# Altium integrated library TI Data Converters Digital to Analog Converter.IntLib: 1533 symbols (part 74 of 99)
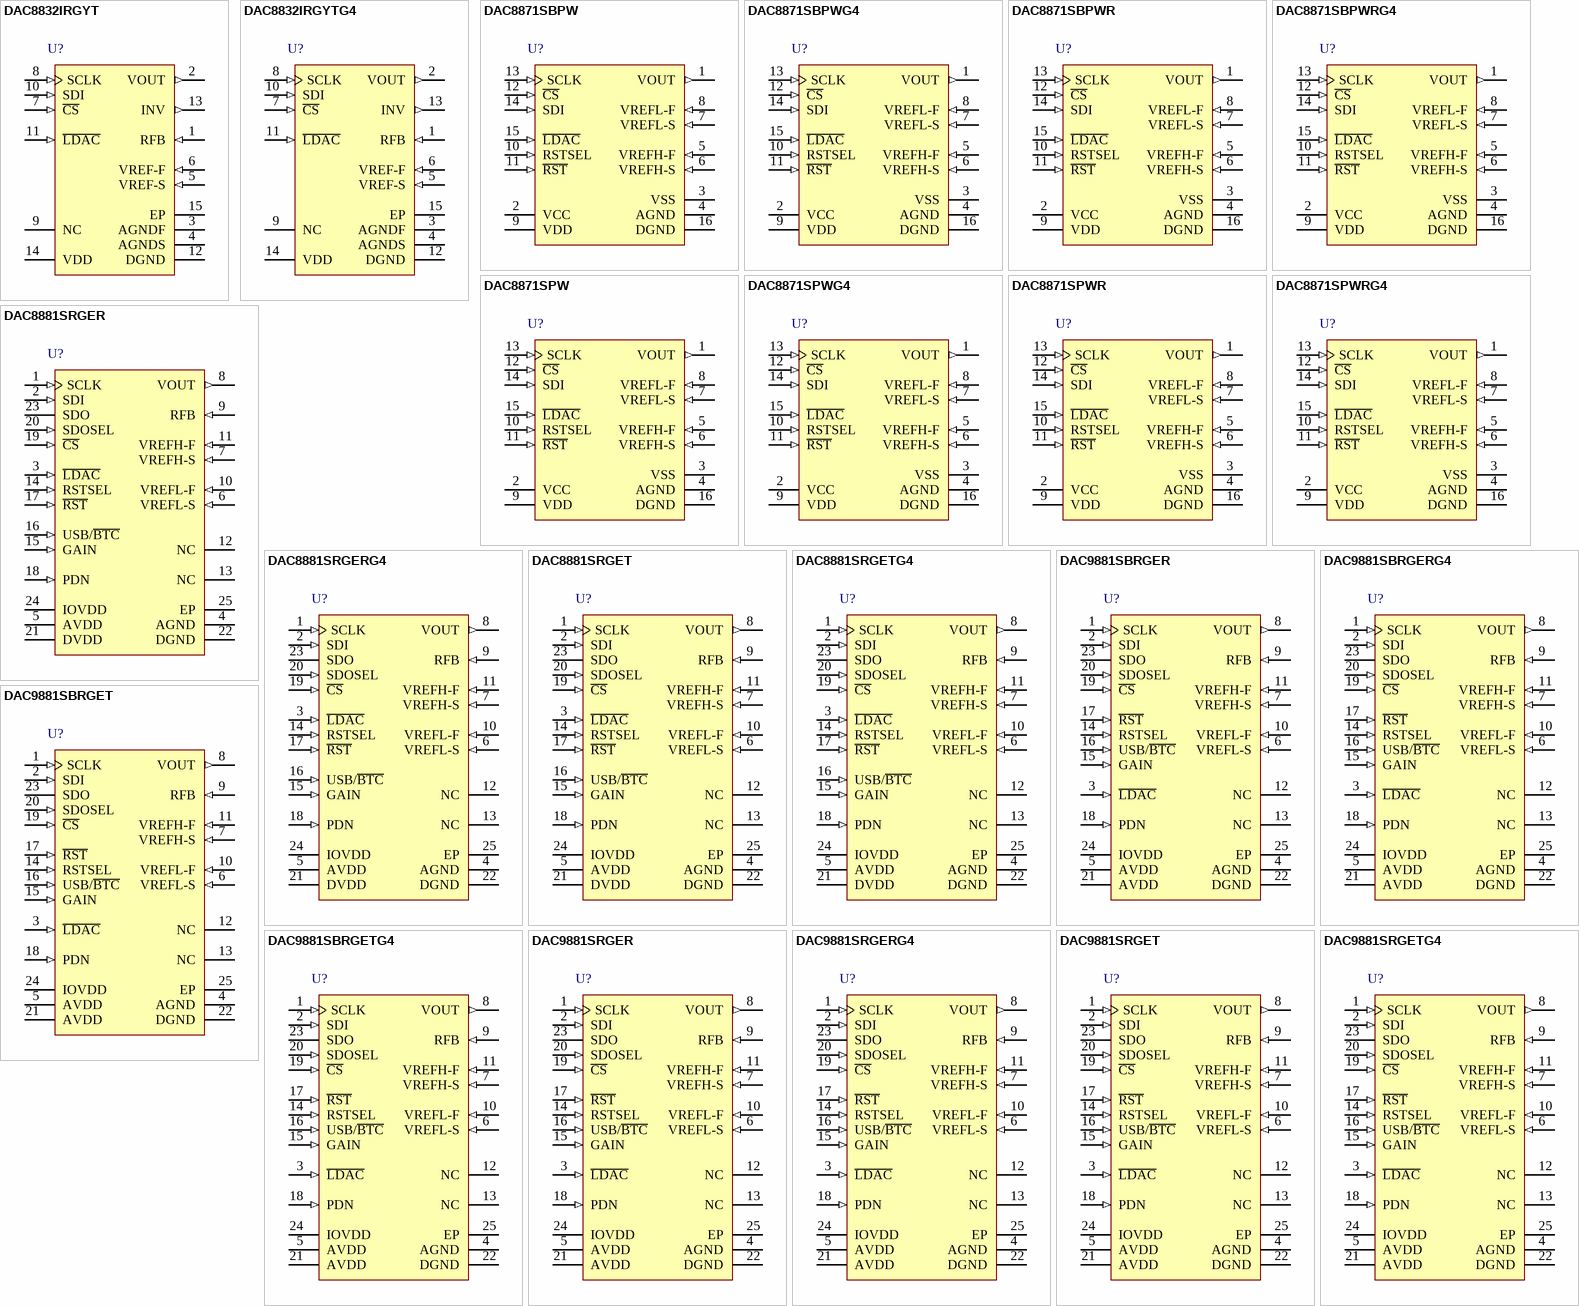
[diagram p146: symbols DAC8832IRGYT to DAC9881SRGETG4]

## DAC8881SRGER
designator U?
Single Channel 16-Bit, Low Noise, Voltage Output DAC, -40 to 105 degC, 24-pin QFN (RGE24), Green (RoHS & no Sb/Br); Manufacturer: Texas Instruments; PartNumber: DAC8881SRGER; DAC Channels: 1; Interface: Serial SPI; Power Consumption(Typ)(mW): 6; Resolution(Bits): 16; Settling Time(us): 5; SubFamily: Precision DAC (=<10MSPS); DatasheetVersion: SBAS422A; PackageVersion: 4204104/G, 07/2011; PackageReference: RGE24-2450X2450TP; PackageDescription: 24-Pin Plastic Flat Pack, Body 4 x 4 mm, Pitch 0.5 mm; Supplier 1: Digi-Key; Supplier Part Number 1: DAC8881SRGER-ND; Supplier 2: Mouser; Supplier Part Number 2: 595-DAC8881SRGER; DNL(Max)(+/-LSB): 1; Eco-Plan: Green (RoHS & no Sb/Br); INL(Max)(+/-LSB): 1; Mounting Technology: Surface Mount; Code_JEDEC: MO-220; ComponentLink1Description: Manufacturer URL; ComponentLink1URL: http://www.ti.com/; ComponentLink2Description: Datasheet; ComponentLink2URL: http://www.ti.com/general/docs/lit/getliterature.tsp?genericPartNumber=DAC8881&fileType=pdf; ComponentLink3Description: Package Specification; ComponentLink3URL: http://www.ti.com/litv/pdf/mpqf124f
footprint TI-RGE24-2450X2450TP_V (QFN, 24-Leads, Body 4x4mm, Pitch 0.5mm, Thermal Pad 2.45x2.45mm)
pins: 1 SCLK (in) "SPI bus serial clock input", 2 SDI (in) "SPI bus serial data input", 3 ~{LDAC} (in) "Load DAC latch control input (active low). When L\D\A\C\ is low, the DAC latch is transparent, and the contents of the input register are transferred to the DAC latch. The DAC output changes to the corresponding level (See Datasheet)", 4 AGND (power) "Analog ground", 5 AVDD (power) "Analog power supply", 6 VREFL-S (in) "Reference low input sense", 7 VREFH-S (in) "Reference high input sense", 8 VOUT (out) "Output of output buffer", 9 RFB (in) "Feedback resistor connected to the inverting input of the output buffer.", 10 VREFL-F (in) "Reference low input force", 11 VREFH-F (in) "Reference high input force", 12 NC "Do not connect.", 13 NC "Do not connect.", 14 RSTSEL (in) "Selects the value of the output from the VOUT pin after power-on or hardware reset. If RSTSEL = IOVDD, then register data = 20000h. If RSTSEL = DGND, then register data = 00000h.", 15 GAIN (in) "Buffer gain setting. Gain = 1 when the pin is connected to DGND; Gain = 2 when the pin is connected to IOVDD.", 16 USB/~{BTC} (in) "Input data format selection. Input data are straight binary format when the pin is connected to IOVDD, and in twos complement format when the pin is connected to DGND.", 17 ~{RST} (in) "Reset input (active low). Logic low on this pin causes the device to perform a reset.", 18 PDN (in) "Power-down input (active high). Logic high on this pin forces the device into power-down status. In power-down, the VOUT pin connects to AGND through a 10kohm resistor.", 19 ~{CS} (in) "SPI bus chip select input (active low). Data bits are not clocked into the serial shift register unless C\S\ is low. When C\S\ is high, SDO is in a high-impedance state. It is recommended to connect this pin to IOVDD through (See Datasheet)", 20 SDOSEL (in) "SPI serial data output selection. When SDOSEL is tied to IOVDD, the contents of the existing input register are shifted out from the SDO pin; this is Stand-Alone mode. When SDOSEL is tied to DGND, the contents in the SPI (See Datasheet)", 21 DVDD (power) "Analog power supply. Must be connected to pin 5.", 22 DGND (power) "Digital ground", 23 SDO (hiz) "SPI bus serial data output. Refer to the Timing Diagrams for further detail.", 24 IOVDD (power) "Interface power. Connect to +1.8V for 1.8V logic, +3V for 3V logic, and to +5V for 5V logic.", 25 EP "The thermal pad is internally connected to the substrate. This pad can be connected to the analog ground or left floating. Keep the thermal pad separate from the digital ground, if possible."

## DAC8881SRGERG4
designator U?
Single Channel 16-Bit, Low Noise, Voltage Output DAC, -40 to 105 degC, 24-pin QFN (RGE24), Green (RoHS & no Sb/Br); Manufacturer: Texas Instruments; PartNumber: DAC8881SRGERG4; DAC Channels: 1; Interface: Serial SPI; Power Consumption(Typ)(mW): 6; Resolution(Bits): 16; Settling Time(us): 5; SubFamily: Precision DAC (=<10MSPS); DatasheetVersion: SBAS422A; PackageVersion: 4204104/G, 07/2011; PackageReference: RGE24-2450X2450TP; PackageDescription: 24-Pin Plastic Flat Pack, Body 4 x 4 mm, Pitch 0.5 mm; Supplier 1: Digi-Key; Supplier Part Number 1: DAC8881SRGERG4-ND; Supplier 2: Mouser; Supplier Part Number 2: 595-DAC8881SRGERG4; DNL(Max)(+/-LSB): 1; Eco-Plan: Green (RoHS & no Sb/Br); INL(Max)(+/-LSB): 1; Mounting Technology: Surface Mount; Code_JEDEC: MO-220; ComponentLink1Description: Manufacturer URL; ComponentLink1URL: http://www.ti.com/; ComponentLink2Description: Datasheet; ComponentLink2URL: http://www.ti.com/general/docs/lit/getliterature.tsp?genericPartNumber=DAC8881&fileType=pdf; ComponentLink3Description: Package Specification; ComponentLink3URL: http://www.ti.com/litv/pdf/mpqf124f
footprint TI-RGE24-2450X2450TP_V (QFN, 24-Leads, Body 4x4mm, Pitch 0.5mm, Thermal Pad 2.45x2.45mm)
pins: 1 SCLK (in) "SPI bus serial clock input", 2 SDI (in) "SPI bus serial data input", 3 ~{LDAC} (in) "Load DAC latch control input (active low). When L\D\A\C\ is low, the DAC latch is transparent, and the contents of the input register are transferred to the DAC latch. The DAC output changes to the corresponding level (See Datasheet)", 4 AGND (power) "Analog ground", 5 AVDD (power) "Analog power supply", 6 VREFL-S (in) "Reference low input sense", 7 VREFH-S (in) "Reference high input sense", 8 VOUT (out) "Output of output buffer", 9 RFB (in) "Feedback resistor connected to the inverting input of the output buffer.", 10 VREFL-F (in) "Reference low input force", 11 VREFH-F (in) "Reference high input force", 12 NC "Do not connect.", 13 NC "Do not connect.", 14 RSTSEL (in) "Selects the value of the output from the VOUT pin after power-on or hardware reset. If RSTSEL = IOVDD, then register data = 20000h. If RSTSEL = DGND, then register data = 00000h.", 15 GAIN (in) "Buffer gain setting. Gain = 1 when the pin is connected to DGND; Gain = 2 when the pin is connected to IOVDD.", 16 USB/~{BTC} (in) "Input data format selection. Input data are straight binary format when the pin is connected to IOVDD, and in twos complement format when the pin is connected to DGND.", 17 ~{RST} (in) "Reset input (active low). Logic low on this pin causes the device to perform a reset.", 18 PDN (in) "Power-down input (active high). Logic high on this pin forces the device into power-down status. In power-down, the VOUT pin connects to AGND through a 10kohm resistor.", 19 ~{CS} (in) "SPI bus chip select input (active low). Data bits are not clocked into the serial shift register unless C\S\ is low. When C\S\ is high, SDO is in a high-impedance state. It is recommended to connect this pin to IOVDD through (See Datasheet)", 20 SDOSEL (in) "SPI serial data output selection. When SDOSEL is tied to IOVDD, the contents of the existing input register are shifted out from the SDO pin; this is Stand-Alone mode. When SDOSEL is tied to DGND, the contents in the SPI (See Datasheet)", 21 DVDD (power) "Analog power supply. Must be connected to pin 5.", 22 DGND (power) "Digital ground", 23 SDO (hiz) "SPI bus serial data output. Refer to the Timing Diagrams for further detail.", 24 IOVDD (power) "Interface power. Connect to +1.8V for 1.8V logic, +3V for 3V logic, and to +5V for 5V logic.", 25 EP "The thermal pad is internally connected to the substrate. This pad can be connected to the analog ground or left floating. Keep the thermal pad separate from the digital ground, if possible."

## DAC8881SRGET
designator U?
Single Channel 16-Bit, Low Noise, Voltage Output DAC, -40 to 105 degC, 24-pin QFN (RGE24), Green (RoHS & no Sb/Br); Manufacturer: Texas Instruments; PartNumber: DAC8881SRGET; DAC Channels: 1; Interface: Serial SPI; Power Consumption(Typ)(mW): 6; Resolution(Bits): 16; Settling Time(us): 5; SubFamily: Precision DAC (=<10MSPS); DatasheetVersion: SBAS422A; PackageVersion: 4204104/G, 07/2011; PackageReference: RGE24-2450X2450TP; PackageDescription: 24-Pin Plastic Flat Pack, Body 4 x 4 mm, Pitch 0.5 mm; Supplier 1: Digi-Key; Supplier Part Number 1: 296-22741-2-ND; Supplier 2: Digi-Key; Supplier Part Number 2: 296-22741-1-ND; Supplier 3: Digi-Key; Supplier Part Number 3: 296-22741-6-ND; Supplier 4: Farnell; Supplier Part Number 4: 1754813; Supplier 5: Newark; Supplier Part Number 5: 93R5117; Supplier 6: Newark; Supplier Part Number 6: 58M0326; Supplier 7: Mouser; Supplier Part Number 7: 595-DAC8881SRGET; DNL(Max)(+/-LSB): 1; Eco-Plan: Green (RoHS & no Sb/Br); INL(Max)(+/-LSB): 1; Mounting Technology: Surface Mount; Code_JEDEC: MO-220; ComponentLink1Description: Manufacturer URL; ComponentLink1URL: http://www.ti.com/; ComponentLink2Description: Datasheet; ComponentLink2URL: http://www.ti.com/general/docs/lit/getliterature.tsp?genericPartNumber=DAC8881&fileType=pdf; ComponentLink3Description: Package Specification; ComponentLink3URL: http://www.ti.com/litv/pdf/mpqf124f
footprint TI-RGE24-2450X2450TP_V (QFN, 24-Leads, Body 4x4mm, Pitch 0.5mm, Thermal Pad 2.45x2.45mm)
pins: 1 SCLK (in) "SPI bus serial clock input", 2 SDI (in) "SPI bus serial data input", 3 ~{LDAC} (in) "Load DAC latch control input (active low). When L\D\A\C\ is low, the DAC latch is transparent, and the contents of the input register are transferred to the DAC latch. The DAC output changes to the corresponding level (See Datasheet)", 4 AGND (power) "Analog ground", 5 AVDD (power) "Analog power supply", 6 VREFL-S (in) "Reference low input sense", 7 VREFH-S (in) "Reference high input sense", 8 VOUT (out) "Output of output buffer", 9 RFB (in) "Feedback resistor connected to the inverting input of the output buffer.", 10 VREFL-F (in) "Reference low input force", 11 VREFH-F (in) "Reference high input force", 12 NC "Do not connect.", 13 NC "Do not connect.", 14 RSTSEL (in) "Selects the value of the output from the VOUT pin after power-on or hardware reset. If RSTSEL = IOVDD, then register data = 20000h. If RSTSEL = DGND, then register data = 00000h.", 15 GAIN (in) "Buffer gain setting. Gain = 1 when the pin is connected to DGND; Gain = 2 when the pin is connected to IOVDD.", 16 USB/~{BTC} (in) "Input data format selection. Input data are straight binary format when the pin is connected to IOVDD, and in twos complement format when the pin is connected to DGND.", 17 ~{RST} (in) "Reset input (active low). Logic low on this pin causes the device to perform a reset.", 18 PDN (in) "Power-down input (active high). Logic high on this pin forces the device into power-down status. In power-down, the VOUT pin connects to AGND through a 10kohm resistor.", 19 ~{CS} (in) "SPI bus chip select input (active low). Data bits are not clocked into the serial shift register unless C\S\ is low. When C\S\ is high, SDO is in a high-impedance state. It is recommended to connect this pin to IOVDD through (See Datasheet)", 20 SDOSEL (in) "SPI serial data output selection. When SDOSEL is tied to IOVDD, the contents of the existing input register are shifted out from the SDO pin; this is Stand-Alone mode. When SDOSEL is tied to DGND, the contents in the SPI (See Datasheet)", 21 DVDD (power) "Analog power supply. Must be connected to pin 5.", 22 DGND (power) "Digital ground", 23 SDO (hiz) "SPI bus serial data output. Refer to the Timing Diagrams for further detail.", 24 IOVDD (power) "Interface power. Connect to +1.8V for 1.8V logic, +3V for 3V logic, and to +5V for 5V logic.", 25 EP "The thermal pad is internally connected to the substrate. This pad can be connected to the analog ground or left floating. Keep the thermal pad separate from the digital ground, if possible."

## DAC8881SRGETG4
designator U?
Single Channel 16-Bit, Low Noise, Voltage Output DAC, -40 to 105 degC, 24-pin QFN (RGE24), Green (RoHS & no Sb/Br); Manufacturer: Texas Instruments; PartNumber: DAC8881SRGETG4; DAC Channels: 1; Interface: Serial SPI; Power Consumption(Typ)(mW): 6; Resolution(Bits): 16; Settling Time(us): 5; SubFamily: Precision DAC (=<10MSPS); DatasheetVersion: SBAS422A; PackageVersion: 4204104/G, 07/2011; PackageReference: RGE24-2450X2450TP; PackageDescription: 24-Pin Plastic Flat Pack, Body 4 x 4 mm, Pitch 0.5 mm; Supplier 1: Digi-Key; Supplier Part Number 1: DAC8881SRGETG4-ND; Supplier 2: Newark; Supplier Part Number 2: 60M1643; Supplier 3: Mouser; Supplier Part Number 3: 595-DAC8881SRGETG4; DNL(Max)(+/-LSB): 1; Eco-Plan: Green (RoHS & no Sb/Br); INL(Max)(+/-LSB): 1; Mounting Technology: Surface Mount; Code_JEDEC: MO-220; ComponentLink1Description: Manufacturer URL; ComponentLink1URL: http://www.ti.com/; ComponentLink2Description: Datasheet; ComponentLink2URL: http://www.ti.com/general/docs/lit/getliterature.tsp?genericPartNumber=DAC8881&fileType=pdf; ComponentLink3Description: Package Specification; ComponentLink3URL: http://www.ti.com/litv/pdf/mpqf124f
footprint TI-RGE24-2450X2450TP_V (QFN, 24-Leads, Body 4x4mm, Pitch 0.5mm, Thermal Pad 2.45x2.45mm)
pins: 1 SCLK (in) "SPI bus serial clock input", 2 SDI (in) "SPI bus serial data input", 3 ~{LDAC} (in) "Load DAC latch control input (active low). When L\D\A\C\ is low, the DAC latch is transparent, and the contents of the input register are transferred to the DAC latch. The DAC output changes to the corresponding level (See Datasheet)", 4 AGND (power) "Analog ground", 5 AVDD (power) "Analog power supply", 6 VREFL-S (in) "Reference low input sense", 7 VREFH-S (in) "Reference high input sense", 8 VOUT (out) "Output of output buffer", 9 RFB (in) "Feedback resistor connected to the inverting input of the output buffer.", 10 VREFL-F (in) "Reference low input force", 11 VREFH-F (in) "Reference high input force", 12 NC "Do not connect.", 13 NC "Do not connect.", 14 RSTSEL (in) "Selects the value of the output from the VOUT pin after power-on or hardware reset. If RSTSEL = IOVDD, then register data = 20000h. If RSTSEL = DGND, then register data = 00000h.", 15 GAIN (in) "Buffer gain setting. Gain = 1 when the pin is connected to DGND; Gain = 2 when the pin is connected to IOVDD.", 16 USB/~{BTC} (in) "Input data format selection. Input data are straight binary format when the pin is connected to IOVDD, and in twos complement format when the pin is connected to DGND.", 17 ~{RST} (in) "Reset input (active low). Logic low on this pin causes the device to perform a reset.", 18 PDN (in) "Power-down input (active high). Logic high on this pin forces the device into power-down status. In power-down, the VOUT pin connects to AGND through a 10kohm resistor.", 19 ~{CS} (in) "SPI bus chip select input (active low). Data bits are not clocked into the serial shift register unless C\S\ is low. When C\S\ is high, SDO is in a high-impedance state. It is recommended to connect this pin to IOVDD through (See Datasheet)", 20 SDOSEL (in) "SPI serial data output selection. When SDOSEL is tied to IOVDD, the contents of the existing input register are shifted out from the SDO pin; this is Stand-Alone mode. When SDOSEL is tied to DGND, the contents in the SPI (See Datasheet)", 21 DVDD (power) "Analog power supply. Must be connected to pin 5.", 22 DGND (power) "Digital ground", 23 SDO (hiz) "SPI bus serial data output. Refer to the Timing Diagrams for further detail.", 24 IOVDD (power) "Interface power. Connect to +1.8V for 1.8V logic, +3V for 3V logic, and to +5V for 5V logic.", 25 EP "The thermal pad is internally connected to the substrate. This pad can be connected to the analog ground or left floating. Keep the thermal pad separate from the digital ground, if possible."

## DAC9881SBRGER
designator U?
18-Bit, Single Channel, Low Noise, Voltage Output DAC, -40 to 105 degC, 24-pin QFN (RGE24), Green (RoHS & no Sb/Br); Manufacturer: Texas Instruments; PartNumber: DAC9881SBRGER; DAC Channels: 1; INL(Max)(+/-LSB): 2; Interface: Serial SPI; Power Consumption(Typ)(mW): 4.3; Resolution(Bits): 18; Settling Time(us): 5; SubFamily: Precision DAC (=<10MSPS); DatasheetVersion: SBAS438A; PackageVersion: 4204104/G, 07/2011; PackageReference: RGE24-2450X2450TP; PackageDescription: 24-Pin Plastic Flat Pack, Body 4 x 4 mm, Pitch 0.5 mm; Supplier 1: Digi-Key; Supplier Part Number 1: DAC9881SBRGER-ND; Supplier 2: Mouser; Supplier Part Number 2: 595-DAC9881SBRGER; DNL(Max)(+/-LSB): 1; Eco-Plan: Green (RoHS & no Sb/Br); Mounting Technology: Surface Mount; Code_JEDEC: MO-220; ComponentLink1Description: Manufacturer URL; ComponentLink1URL: http://www.ti.com/; ComponentLink2Description: Datasheet; ComponentLink2URL: http://www.ti.com/general/docs/lit/getliterature.tsp?genericPartNumber=DAC9881&fileType=pdf; ComponentLink3Description: Package Specification; ComponentLink3URL: http://www.ti.com/litv/pdf/mpqf124f
footprint TI-RGE24-2450X2450TP_V (QFN, 24-Leads, Body 4x4mm, Pitch 0.5mm, Thermal Pad 2.45x2.45mm)
pins: 1 SCLK (in) "SPI bus serial clock input", 2 SDI (in) "SPI bus serial data input", 3 ~{LDAC} (in) "Load DAC latch control input (active low). When L\D\A\C\ is low, the DAC latch is transparent, and the contents of the input register are transferred to the DAC latch. The DAC output changes to the corresponding level (See Datasheet)", 4 AGND (power) "Analog ground", 5 AVDD (power) "Analog power supply", 6 VREFL-S (in) "Reference low input sense", 7 VREFH-S (in) "Reference high input sense", 8 VOUT (out) "Output of output buffer", 9 RFB (in) "Feedback resistor connected to the inverting input of the output buffer.", 10 VREFL-F (in) "Reference low input force", 11 VREFH-F (in) "Reference high input force", 12 NC "Do not connect.", 13 NC "Do not connect.", 14 RSTSEL (in) "Selects the value of the output from the VOUT pin after power-on or hardware reset. If RSTSEL = IOVDD, then register data = 20000h. If RSTSEL = DGND, then register data = 00000h.", 15 GAIN (in) "Buffer gain setting. Gain = 1 when the pin is connected to DGND; Gain = 2 when the pin is connected to IOVDD.", 16 USB/~{BTC} (in) "Input data format selection. Input data are straight binary format when the pin is connected to IOVDD, and in twos complement format when the pin is connected to DGND.", 17 ~{RST} (in) "Reset input (active low). Logic low on this pin causes the device to perform a reset.", 18 PDN (in) "Power-down input (active high). Logic high on this pin forces the device into power-down status. In power-down, the VOUT pin connects to AGND through a 10kohm resistor.", 19 ~{CS} (in) "SPI bus chip select input (active low). Data bits are not clocked into the serial shift register unless CS is low. When CS is high, SDO is in a high-impedance state. It is recommended to connect this pin to IOVDD through a (See Datasheet)", 20 SDOSEL (in) "SPI serial data output selection. When SDOSEL is tied to IOVDD, the contents of the existing input register are shifted out from the SDO pin; this is Stand-Alone mode. When SDOSEL is tied to DGND, the contents in the SPI (See Datasheet)", 21 AVDD (power) "Analog power supply. Must be connected to pin 5.", 22 DGND (power) "Digital ground", 23 SDO (hiz) "SPI bus serial data output. Refer to the Timing Diagrams for further detail.", 24 IOVDD (power) "Interface power. Connect to +1.8V for 1.8V logic, +3V for 3V logic, and to +5V for 5V logic.", 25 EP "The thermal pad is internally connected to the substrate. This pad can be connected to the analog ground or left floating. Keep the thermal pad separate from the digital ground, if possible."

## DAC9881SBRGERG4
designator U?
18-Bit, Single Channel, Low Noise, Voltage Output DAC, -40 to 105 degC, 24-pin QFN (RGE24), Green (RoHS & no Sb/Br); Manufacturer: Texas Instruments; PartNumber: DAC9881SBRGERG4; DAC Channels: 1; INL(Max)(+/-LSB): 2; Interface: Serial SPI; Power Consumption(Typ)(mW): 4.3; Resolution(Bits): 18; Settling Time(us): 5; SubFamily: Precision DAC (=<10MSPS); DatasheetVersion: SBAS438A; PackageVersion: 4204104/G, 07/2011; PackageReference: RGE24-2450X2450TP; PackageDescription: 24-Pin Plastic Flat Pack, Body 4 x 4 mm, Pitch 0.5 mm; Supplier 1: Digi-Key; Supplier Part Number 1: DAC9881SBRGERG4-ND; Supplier 2: Mouser; Supplier Part Number 2: 595-DAC9881SBRGERG4; DNL(Max)(+/-LSB): 1; Eco-Plan: Green (RoHS & no Sb/Br); Mounting Technology: Surface Mount; Code_JEDEC: MO-220; ComponentLink1Description: Manufacturer URL; ComponentLink1URL: http://www.ti.com/; ComponentLink2Description: Datasheet; ComponentLink2URL: http://www.ti.com/general/docs/lit/getliterature.tsp?genericPartNumber=DAC9881&fileType=pdf; ComponentLink3Description: Package Specification; ComponentLink3URL: http://www.ti.com/litv/pdf/mpqf124f
footprint TI-RGE24-2450X2450TP_V (QFN, 24-Leads, Body 4x4mm, Pitch 0.5mm, Thermal Pad 2.45x2.45mm)
pins: 1 SCLK (in) "SPI bus serial clock input", 2 SDI (in) "SPI bus serial data input", 3 ~{LDAC} (in) "Load DAC latch control input (active low). When L\D\A\C\ is low, the DAC latch is transparent, and the contents of the input register are transferred to the DAC latch. The DAC output changes to the corresponding level (See Datasheet)", 4 AGND (power) "Analog ground", 5 AVDD (power) "Analog power supply", 6 VREFL-S (in) "Reference low input sense", 7 VREFH-S (in) "Reference high input sense", 8 VOUT (out) "Output of output buffer", 9 RFB (in) "Feedback resistor connected to the inverting input of the output buffer.", 10 VREFL-F (in) "Reference low input force", 11 VREFH-F (in) "Reference high input force", 12 NC "Do not connect.", 13 NC "Do not connect.", 14 RSTSEL (in) "Selects the value of the output from the VOUT pin after power-on or hardware reset. If RSTSEL = IOVDD, then register data = 20000h. If RSTSEL = DGND, then register data = 00000h.", 15 GAIN (in) "Buffer gain setting. Gain = 1 when the pin is connected to DGND; Gain = 2 when the pin is connected to IOVDD.", 16 USB/~{BTC} (in) "Input data format selection. Input data are straight binary format when the pin is connected to IOVDD, and in twos complement format when the pin is connected to DGND.", 17 ~{RST} (in) "Reset input (active low). Logic low on this pin causes the device to perform a reset.", 18 PDN (in) "Power-down input (active high). Logic high on this pin forces the device into power-down status. In power-down, the VOUT pin connects to AGND through a 10kohm resistor.", 19 ~{CS} (in) "SPI bus chip select input (active low). Data bits are not clocked into the serial shift register unless CS is low. When CS is high, SDO is in a high-impedance state. It is recommended to connect this pin to IOVDD through a (See Datasheet)", 20 SDOSEL (in) "SPI serial data output selection. When SDOSEL is tied to IOVDD, the contents of the existing input register are shifted out from the SDO pin; this is Stand-Alone mode. When SDOSEL is tied to DGND, the contents in the SPI (See Datasheet)", 21 AVDD (power) "Analog power supply. Must be connected to pin 5.", 22 DGND (power) "Digital ground", 23 SDO (hiz) "SPI bus serial data output. Refer to the Timing Diagrams for further detail.", 24 IOVDD (power) "Interface power. Connect to +1.8V for 1.8V logic, +3V for 3V logic, and to +5V for 5V logic.", 25 EP "The thermal pad is internally connected to the substrate. This pad can be connected to the analog ground or left floating. Keep the thermal pad separate from the digital ground, if possible."

## DAC9881SBRGET
designator U?
18-Bit, Single Channel, Low Noise, Voltage Output DAC, -40 to 105 degC, 24-pin QFN (RGE24), Green (RoHS & no Sb/Br); Manufacturer: Texas Instruments; PartNumber: DAC9881SBRGET; DAC Channels: 1; INL(Max)(+/-LSB): 2; Interface: Serial SPI; Power Consumption(Typ)(mW): 4.3; Resolution(Bits): 18; Settling Time(us): 5; SubFamily: Precision DAC (=<10MSPS); DatasheetVersion: SBAS438A; PackageVersion: 4204104/G, 07/2011; PackageReference: RGE24-2450X2450TP; PackageDescription: 24-Pin Plastic Flat Pack, Body 4 x 4 mm, Pitch 0.5 mm; Supplier 1: Digi-Key; Supplier Part Number 1: 296-23701-2-ND; Supplier 2: Digi-Key; Supplier Part Number 2: 296-23701-1-ND; Supplier 3: Digi-Key; Supplier Part Number 3: 296-23701-6-ND; Supplier 4: Newark; Supplier Part Number 4: 08P4020; Supplier 5: Mouser; Supplier Part Number 5: 595-DAC9881SBRGET; DNL(Max)(+/-LSB): 1; Eco-Plan: Green (RoHS & no Sb/Br); Mounting Technology: Surface Mount; Code_JEDEC: MO-220; ComponentLink1Description: Manufacturer URL; ComponentLink1URL: http://www.ti.com/; ComponentLink2Description: Datasheet; ComponentLink2URL: http://www.ti.com/general/docs/lit/getliterature.tsp?genericPartNumber=DAC9881&fileType=pdf; ComponentLink3Description: Package Specification; ComponentLink3URL: http://www.ti.com/litv/pdf/mpqf124f
footprint TI-RGE24-2450X2450TP_V (QFN, 24-Leads, Body 4x4mm, Pitch 0.5mm, Thermal Pad 2.45x2.45mm)
pins: 1 SCLK (in) "SPI bus serial clock input", 2 SDI (in) "SPI bus serial data input", 3 ~{LDAC} (in) "Load DAC latch control input (active low). When L\D\A\C\ is low, the DAC latch is transparent, and the contents of the input register are transferred to the DAC latch. The DAC output changes to the corresponding level (See Datasheet)", 4 AGND (power) "Analog ground", 5 AVDD (power) "Analog power supply", 6 VREFL-S (in) "Reference low input sense", 7 VREFH-S (in) "Reference high input sense", 8 VOUT (out) "Output of output buffer", 9 RFB (in) "Feedback resistor connected to the inverting input of the output buffer.", 10 VREFL-F (in) "Reference low input force", 11 VREFH-F (in) "Reference high input force", 12 NC "Do not connect.", 13 NC "Do not connect.", 14 RSTSEL (in) "Selects the value of the output from the VOUT pin after power-on or hardware reset. If RSTSEL = IOVDD, then register data = 20000h. If RSTSEL = DGND, then register data = 00000h.", 15 GAIN (in) "Buffer gain setting. Gain = 1 when the pin is connected to DGND; Gain = 2 when the pin is connected to IOVDD.", 16 USB/~{BTC} (in) "Input data format selection. Input data are straight binary format when the pin is connected to IOVDD, and in twos complement format when the pin is connected to DGND.", 17 ~{RST} (in) "Reset input (active low). Logic low on this pin causes the device to perform a reset.", 18 PDN (in) "Power-down input (active high). Logic high on this pin forces the device into power-down status. In power-down, the VOUT pin connects to AGND through a 10kohm resistor.", 19 ~{CS} (in) "SPI bus chip select input (active low). Data bits are not clocked into the serial shift register unless CS is low. When CS is high, SDO is in a high-impedance state. It is recommended to connect this pin to IOVDD through a (See Datasheet)", 20 SDOSEL (in) "SPI serial data output selection. When SDOSEL is tied to IOVDD, the contents of the existing input register are shifted out from the SDO pin; this is Stand-Alone mode. When SDOSEL is tied to DGND, the contents in the SPI (See Datasheet)", 21 AVDD (power) "Analog power supply. Must be connected to pin 5.", 22 DGND (power) "Digital ground", 23 SDO (hiz) "SPI bus serial data output. Refer to the Timing Diagrams for further detail.", 24 IOVDD (power) "Interface power. Connect to +1.8V for 1.8V logic, +3V for 3V logic, and to +5V for 5V logic.", 25 EP "The thermal pad is internally connected to the substrate. This pad can be connected to the analog ground or left floating. Keep the thermal pad separate from the digital ground, if possible."

## DAC9881SBRGETG4
designator U?
18-Bit, Single Channel, Low Noise, Voltage Output DAC, -40 to 105 degC, 24-pin QFN (RGE24), Green (RoHS & no Sb/Br); Manufacturer: Texas Instruments; PartNumber: DAC9881SBRGETG4; DAC Channels: 1; INL(Max)(+/-LSB): 2; Interface: Serial SPI; Power Consumption(Typ)(mW): 4.3; Resolution(Bits): 18; Settling Time(us): 5; SubFamily: Precision DAC (=<10MSPS); DatasheetVersion: SBAS438A; PackageVersion: 4204104/G, 07/2011; PackageReference: RGE24-2450X2450TP; PackageDescription: 24-Pin Plastic Flat Pack, Body 4 x 4 mm, Pitch 0.5 mm; Supplier 1: Digi-Key; Supplier Part Number 1: DAC9881SBRGETG4-ND; Supplier 2: Mouser; Supplier Part Number 2: 595-DAC9881SBRGETG4; DNL(Max)(+/-LSB): 1; Eco-Plan: Green (RoHS & no Sb/Br); Mounting Technology: Surface Mount; Code_JEDEC: MO-220; ComponentLink1Description: Manufacturer URL; ComponentLink1URL: http://www.ti.com/; ComponentLink2Description: Datasheet; ComponentLink2URL: http://www.ti.com/general/docs/lit/getliterature.tsp?genericPartNumber=DAC9881&fileType=pdf; ComponentLink3Description: Package Specification; ComponentLink3URL: http://www.ti.com/litv/pdf/mpqf124f
footprint TI-RGE24-2450X2450TP_V (QFN, 24-Leads, Body 4x4mm, Pitch 0.5mm, Thermal Pad 2.45x2.45mm)
pins: 1 SCLK (in) "SPI bus serial clock input", 2 SDI (in) "SPI bus serial data input", 3 ~{LDAC} (in) "Load DAC latch control input (active low). When L\D\A\C\ is low, the DAC latch is transparent, and the contents of the input register are transferred to the DAC latch. The DAC output changes to the corresponding level (See Datasheet)", 4 AGND (power) "Analog ground", 5 AVDD (power) "Analog power supply", 6 VREFL-S (in) "Reference low input sense", 7 VREFH-S (in) "Reference high input sense", 8 VOUT (out) "Output of output buffer", 9 RFB (in) "Feedback resistor connected to the inverting input of the output buffer.", 10 VREFL-F (in) "Reference low input force", 11 VREFH-F (in) "Reference high input force", 12 NC "Do not connect.", 13 NC "Do not connect.", 14 RSTSEL (in) "Selects the value of the output from the VOUT pin after power-on or hardware reset. If RSTSEL = IOVDD, then register data = 20000h. If RSTSEL = DGND, then register data = 00000h.", 15 GAIN (in) "Buffer gain setting. Gain = 1 when the pin is connected to DGND; Gain = 2 when the pin is connected to IOVDD.", 16 USB/~{BTC} (in) "Input data format selection. Input data are straight binary format when the pin is connected to IOVDD, and in twos complement format when the pin is connected to DGND.", 17 ~{RST} (in) "Reset input (active low). Logic low on this pin causes the device to perform a reset.", 18 PDN (in) "Power-down input (active high). Logic high on this pin forces the device into power-down status. In power-down, the VOUT pin connects to AGND through a 10kohm resistor.", 19 ~{CS} (in) "SPI bus chip select input (active low). Data bits are not clocked into the serial shift register unless CS is low. When CS is high, SDO is in a high-impedance state. It is recommended to connect this pin to IOVDD through a (See Datasheet)", 20 SDOSEL (in) "SPI serial data output selection. When SDOSEL is tied to IOVDD, the contents of the existing input register are shifted out from the SDO pin; this is Stand-Alone mode. When SDOSEL is tied to DGND, the contents in the SPI (See Datasheet)", 21 AVDD (power) "Analog power supply. Must be connected to pin 5.", 22 DGND (power) "Digital ground", 23 SDO (hiz) "SPI bus serial data output. Refer to the Timing Diagrams for further detail.", 24 IOVDD (power) "Interface power. Connect to +1.8V for 1.8V logic, +3V for 3V logic, and to +5V for 5V logic.", 25 EP "The thermal pad is internally connected to the substrate. This pad can be connected to the analog ground or left floating. Keep the thermal pad separate from the digital ground, if possible."

## DAC9881SRGER
designator U?
18-Bit, Single Channel, Low Noise, Voltage Output DAC, -40 to 105 degC, 24-pin QFN (RGE24), Green (RoHS & no Sb/Br); Manufacturer: Texas Instruments; PartNumber: DAC9881SRGER; DAC Channels: 1; DNL(Max)(+/-LSB): 2; INL(Max)(+/-LSB): 3; Interface: Serial SPI; Power Consumption(Typ)(mW): 4.3; Resolution(Bits): 18; Settling Time(us): 5; SubFamily: Precision DAC (=<10MSPS); DatasheetVersion: SBAS438A; PackageVersion: 4204104/G, 07/2011; PackageReference: RGE24-2450X2450TP; PackageDescription: 24-Pin Plastic Flat Pack, Body 4 x 4 mm, Pitch 0.5 mm; Supplier 1: Digi-Key; Supplier Part Number 1: DAC9881SRGER-ND; Supplier 2: Mouser; Supplier Part Number 2: 595-DAC9881SRGER; Eco-Plan: Green (RoHS & no Sb/Br); Mounting Technology: Surface Mount; Code_JEDEC: MO-220; ComponentLink1Description: Manufacturer URL; ComponentLink1URL: http://www.ti.com/; ComponentLink2Description: Datasheet; ComponentLink2URL: http://www.ti.com/general/docs/lit/getliterature.tsp?genericPartNumber=DAC9881&fileType=pdf; ComponentLink3Description: Package Specification; ComponentLink3URL: http://www.ti.com/litv/pdf/mpqf124f
footprint TI-RGE24-2450X2450TP_V (QFN, 24-Leads, Body 4x4mm, Pitch 0.5mm, Thermal Pad 2.45x2.45mm)
pins: 1 SCLK (in) "SPI bus serial clock input", 2 SDI (in) "SPI bus serial data input", 3 ~{LDAC} (in) "Load DAC latch control input (active low). When L\D\A\C\ is low, the DAC latch is transparent, and the contents of the input register are transferred to the DAC latch. The DAC output changes to the corresponding level (See Datasheet)", 4 AGND (power) "Analog ground", 5 AVDD (power) "Analog power supply", 6 VREFL-S (in) "Reference low input sense", 7 VREFH-S (in) "Reference high input sense", 8 VOUT (out) "Output of output buffer", 9 RFB (in) "Feedback resistor connected to the inverting input of the output buffer.", 10 VREFL-F (in) "Reference low input force", 11 VREFH-F (in) "Reference high input force", 12 NC "Do not connect.", 13 NC "Do not connect.", 14 RSTSEL (in) "Selects the value of the output from the VOUT pin after power-on or hardware reset. If RSTSEL = IOVDD, then register data = 20000h. If RSTSEL = DGND, then register data = 00000h.", 15 GAIN (in) "Buffer gain setting. Gain = 1 when the pin is connected to DGND; Gain = 2 when the pin is connected to IOVDD.", 16 USB/~{BTC} (in) "Input data format selection. Input data are straight binary format when the pin is connected to IOVDD, and in twos complement format when the pin is connected to DGND.", 17 ~{RST} (in) "Reset input (active low). Logic low on this pin causes the device to perform a reset.", 18 PDN (in) "Power-down input (active high). Logic high on this pin forces the device into power-down status. In power-down, the VOUT pin connects to AGND through a 10kohm resistor.", 19 ~{CS} (in) "SPI bus chip select input (active low). Data bits are not clocked into the serial shift register unless CS is low. When CS is high, SDO is in a high-impedance state. It is recommended to connect this pin to IOVDD through a (See Datasheet)", 20 SDOSEL (in) "SPI serial data output selection. When SDOSEL is tied to IOVDD, the contents of the existing input register are shifted out from the SDO pin; this is Stand-Alone mode. When SDOSEL is tied to DGND, the contents in the SPI (See Datasheet)", 21 AVDD (power) "Analog power supply. Must be connected to pin 5.", 22 DGND (power) "Digital ground", 23 SDO (hiz) "SPI bus serial data output. Refer to the Timing Diagrams for further detail.", 24 IOVDD (power) "Interface power. Connect to +1.8V for 1.8V logic, +3V for 3V logic, and to +5V for 5V logic.", 25 EP "The thermal pad is internally connected to the substrate. This pad can be connected to the analog ground or left floating. Keep the thermal pad separate from the digital ground, if possible."

## DAC9881SRGERG4
designator U?
18-Bit, Single Channel, Low Noise, Voltage Output DAC, -40 to 105 degC, 24-pin QFN (RGE24), Green (RoHS & no Sb/Br); Manufacturer: Texas Instruments; PartNumber: DAC9881SRGERG4; DAC Channels: 1; DNL(Max)(+/-LSB): 2; INL(Max)(+/-LSB): 3; Interface: Serial SPI; Power Consumption(Typ)(mW): 4.3; Resolution(Bits): 18; Settling Time(us): 5; SubFamily: Precision DAC (=<10MSPS); DatasheetVersion: SBAS438A; PackageVersion: 4204104/G, 07/2011; PackageReference: RGE24-2450X2450TP; PackageDescription: 24-Pin Plastic Flat Pack, Body 4 x 4 mm, Pitch 0.5 mm; Supplier 1: Digi-Key; Supplier Part Number 1: DAC9881SRGERG4-ND; Supplier 2: Newark; Supplier Part Number 2: 34P3677; Supplier 3: Mouser; Supplier Part Number 3: 595-DAC9881SRGERG4; Eco-Plan: Green (RoHS & no Sb/Br); Mounting Technology: Surface Mount; Code_JEDEC: MO-220; ComponentLink1Description: Manufacturer URL; ComponentLink1URL: http://www.ti.com/; ComponentLink2Description: Datasheet; ComponentLink2URL: http://www.ti.com/general/docs/lit/getliterature.tsp?genericPartNumber=DAC9881&fileType=pdf; ComponentLink3Description: Package Specification; ComponentLink3URL: http://www.ti.com/litv/pdf/mpqf124f
footprint TI-RGE24-2450X2450TP_V (QFN, 24-Leads, Body 4x4mm, Pitch 0.5mm, Thermal Pad 2.45x2.45mm)
pins: 1 SCLK (in) "SPI bus serial clock input", 2 SDI (in) "SPI bus serial data input", 3 ~{LDAC} (in) "Load DAC latch control input (active low). When L\D\A\C\ is low, the DAC latch is transparent, and the contents of the input register are transferred to the DAC latch. The DAC output changes to the corresponding level (See Datasheet)", 4 AGND (power) "Analog ground", 5 AVDD (power) "Analog power supply", 6 VREFL-S (in) "Reference low input sense", 7 VREFH-S (in) "Reference high input sense", 8 VOUT (out) "Output of output buffer", 9 RFB (in) "Feedback resistor connected to the inverting input of the output buffer.", 10 VREFL-F (in) "Reference low input force", 11 VREFH-F (in) "Reference high input force", 12 NC "Do not connect.", 13 NC "Do not connect.", 14 RSTSEL (in) "Selects the value of the output from the VOUT pin after power-on or hardware reset. If RSTSEL = IOVDD, then register data = 20000h. If RSTSEL = DGND, then register data = 00000h.", 15 GAIN (in) "Buffer gain setting. Gain = 1 when the pin is connected to DGND; Gain = 2 when the pin is connected to IOVDD.", 16 USB/~{BTC} (in) "Input data format selection. Input data are straight binary format when the pin is connected to IOVDD, and in twos complement format when the pin is connected to DGND.", 17 ~{RST} (in) "Reset input (active low). Logic low on this pin causes the device to perform a reset.", 18 PDN (in) "Power-down input (active high). Logic high on this pin forces the device into power-down status. In power-down, the VOUT pin connects to AGND through a 10kohm resistor.", 19 ~{CS} (in) "SPI bus chip select input (active low). Data bits are not clocked into the serial shift register unless CS is low. When CS is high, SDO is in a high-impedance state. It is recommended to connect this pin to IOVDD through a (See Datasheet)", 20 SDOSEL (in) "SPI serial data output selection. When SDOSEL is tied to IOVDD, the contents of the existing input register are shifted out from the SDO pin; this is Stand-Alone mode. When SDOSEL is tied to DGND, the contents in the SPI (See Datasheet)", 21 AVDD (power) "Analog power supply. Must be connected to pin 5.", 22 DGND (power) "Digital ground", 23 SDO (hiz) "SPI bus serial data output. Refer to the Timing Diagrams for further detail.", 24 IOVDD (power) "Interface power. Connect to +1.8V for 1.8V logic, +3V for 3V logic, and to +5V for 5V logic.", 25 EP "The thermal pad is internally connected to the substrate. This pad can be connected to the analog ground or left floating. Keep the thermal pad separate from the digital ground, if possible."

## DAC9881SRGET
designator U?
18-Bit, Single Channel, Low Noise, Voltage Output DAC, -40 to 105 degC, 24-pin QFN (RGE24), Green (RoHS & no Sb/Br); Manufacturer: Texas Instruments; PartNumber: DAC9881SRGET; DAC Channels: 1; DNL(Max)(+/-LSB): 2; INL(Max)(+/-LSB): 3; Interface: Serial SPI; Power Consumption(Typ)(mW): 4.3; Resolution(Bits): 18; Settling Time(us): 5; SubFamily: Precision DAC (=<10MSPS); DatasheetVersion: SBAS438A; PackageVersion: 4204104/G, 07/2011; PackageReference: RGE24-2450X2450TP; PackageDescription: 24-Pin Plastic Flat Pack, Body 4 x 4 mm, Pitch 0.5 mm; Supplier 1: Digi-Key; Supplier Part Number 1: 296-23702-2-ND; Supplier 2: Digi-Key; Supplier Part Number 2: 296-23702-1-ND; Supplier 3: Digi-Key; Supplier Part Number 3: 296-23702-6-ND; Supplier 4: Farnell; Supplier Part Number 4: 1679767; Supplier 5: Mouser; Supplier Part Number 5: 595-DAC9881SRGET; Eco-Plan: Green (RoHS & no Sb/Br); Mounting Technology: Surface Mount; Code_JEDEC: MO-220; ComponentLink1Description: Manufacturer URL; ComponentLink1URL: http://www.ti.com/; ComponentLink2Description: Datasheet; ComponentLink2URL: http://www.ti.com/general/docs/lit/getliterature.tsp?genericPartNumber=DAC9881&fileType=pdf; ComponentLink3Description: Package Specification; ComponentLink3URL: http://www.ti.com/litv/pdf/mpqf124f
footprint TI-RGE24-2450X2450TP_V (QFN, 24-Leads, Body 4x4mm, Pitch 0.5mm, Thermal Pad 2.45x2.45mm)
pins: 1 SCLK (in) "SPI bus serial clock input", 2 SDI (in) "SPI bus serial data input", 3 ~{LDAC} (in) "Load DAC latch control input (active low). When L\D\A\C\ is low, the DAC latch is transparent, and the contents of the input register are transferred to the DAC latch. The DAC output changes to the corresponding level (See Datasheet)", 4 AGND (power) "Analog ground", 5 AVDD (power) "Analog power supply", 6 VREFL-S (in) "Reference low input sense", 7 VREFH-S (in) "Reference high input sense", 8 VOUT (out) "Output of output buffer", 9 RFB (in) "Feedback resistor connected to the inverting input of the output buffer.", 10 VREFL-F (in) "Reference low input force", 11 VREFH-F (in) "Reference high input force", 12 NC "Do not connect.", 13 NC "Do not connect.", 14 RSTSEL (in) "Selects the value of the output from the VOUT pin after power-on or hardware reset. If RSTSEL = IOVDD, then register data = 20000h. If RSTSEL = DGND, then register data = 00000h.", 15 GAIN (in) "Buffer gain setting. Gain = 1 when the pin is connected to DGND; Gain = 2 when the pin is connected to IOVDD.", 16 USB/~{BTC} (in) "Input data format selection. Input data are straight binary format when the pin is connected to IOVDD, and in twos complement format when the pin is connected to DGND.", 17 ~{RST} (in) "Reset input (active low). Logic low on this pin causes the device to perform a reset.", 18 PDN (in) "Power-down input (active high). Logic high on this pin forces the device into power-down status. In power-down, the VOUT pin connects to AGND through a 10kohm resistor.", 19 ~{CS} (in) "SPI bus chip select input (active low). Data bits are not clocked into the serial shift register unless CS is low. When CS is high, SDO is in a high-impedance state. It is recommended to connect this pin to IOVDD through a (See Datasheet)", 20 SDOSEL (in) "SPI serial data output selection. When SDOSEL is tied to IOVDD, the contents of the existing input register are shifted out from the SDO pin; this is Stand-Alone mode. When SDOSEL is tied to DGND, the contents in the SPI (See Datasheet)", 21 AVDD (power) "Analog power supply. Must be connected to pin 5.", 22 DGND (power) "Digital ground", 23 SDO (hiz) "SPI bus serial data output. Refer to the Timing Diagrams for further detail.", 24 IOVDD (power) "Interface power. Connect to +1.8V for 1.8V logic, +3V for 3V logic, and to +5V for 5V logic.", 25 EP "The thermal pad is internally connected to the substrate. This pad can be connected to the analog ground or left floating. Keep the thermal pad separate from the digital ground, if possible."

## DAC9881SRGETG4
designator U?
18-Bit, Single Channel, Low Noise, Voltage Output DAC, -40 to 105 degC, 24-pin QFN (RGE24), Green (RoHS & no Sb/Br); Manufacturer: Texas Instruments; PartNumber: DAC9881SRGETG4; DAC Channels: 1; DNL(Max)(+/-LSB): 2; INL(Max)(+/-LSB): 3; Interface: Serial SPI; Power Consumption(Typ)(mW): 4.3; Resolution(Bits): 18; Settling Time(us): 5; SubFamily: Precision DAC (=<10MSPS); DatasheetVersion: SBAS438A; PackageVersion: 4204104/G, 07/2011; PackageReference: RGE24-2450X2450TP; PackageDescription: 24-Pin Plastic Flat Pack, Body 4 x 4 mm, Pitch 0.5 mm; Supplier 1: Digi-Key; Supplier Part Number 1: DAC9881SRGETG4-ND; Supplier 2: Mouser; Supplier Part Number 2: 595-DAC9881SRGETG4; Eco-Plan: Green (RoHS & no Sb/Br); Mounting Technology: Surface Mount; Code_JEDEC: MO-220; ComponentLink1Description: Manufacturer URL; ComponentLink1URL: http://www.ti.com/; ComponentLink2Description: Datasheet; ComponentLink2URL: http://www.ti.com/general/docs/lit/getliterature.tsp?genericPartNumber=DAC9881&fileType=pdf; ComponentLink3Description: Package Specification; ComponentLink3URL: http://www.ti.com/litv/pdf/mpqf124f
footprint TI-RGE24-2450X2450TP_V (QFN, 24-Leads, Body 4x4mm, Pitch 0.5mm, Thermal Pad 2.45x2.45mm)
pins: 1 SCLK (in) "SPI bus serial clock input", 2 SDI (in) "SPI bus serial data input", 3 ~{LDAC} (in) "Load DAC latch control input (active low). When L\D\A\C\ is low, the DAC latch is transparent, and the contents of the input register are transferred to the DAC latch. The DAC output changes to the corresponding level (See Datasheet)", 4 AGND (power) "Analog ground", 5 AVDD (power) "Analog power supply", 6 VREFL-S (in) "Reference low input sense", 7 VREFH-S (in) "Reference high input sense", 8 VOUT (out) "Output of output buffer", 9 RFB (in) "Feedback resistor connected to the inverting input of the output buffer.", 10 VREFL-F (in) "Reference low input force", 11 VREFH-F (in) "Reference high input force", 12 NC "Do not connect.", 13 NC "Do not connect.", 14 RSTSEL (in) "Selects the value of the output from the VOUT pin after power-on or hardware reset. If RSTSEL = IOVDD, then register data = 20000h. If RSTSEL = DGND, then register data = 00000h.", 15 GAIN (in) "Buffer gain setting. Gain = 1 when the pin is connected to DGND; Gain = 2 when the pin is connected to IOVDD.", 16 USB/~{BTC} (in) "Input data format selection. Input data are straight binary format when the pin is connected to IOVDD, and in twos complement format when the pin is connected to DGND.", 17 ~{RST} (in) "Reset input (active low). Logic low on this pin causes the device to perform a reset.", 18 PDN (in) "Power-down input (active high). Logic high on this pin forces the device into power-down status. In power-down, the VOUT pin connects to AGND through a 10kohm resistor.", 19 ~{CS} (in) "SPI bus chip select input (active low). Data bits are not clocked into the serial shift register unless CS is low. When CS is high, SDO is in a high-impedance state. It is recommended to connect this pin to IOVDD through a (See Datasheet)", 20 SDOSEL (in) "SPI serial data output selection. When SDOSEL is tied to IOVDD, the contents of the existing input register are shifted out from the SDO pin; this is Stand-Alone mode. When SDOSEL is tied to DGND, the contents in the SPI (See Datasheet)", 21 AVDD (power) "Analog power supply. Must be connected to pin 5.", 22 DGND (power) "Digital ground", 23 SDO (hiz) "SPI bus serial data output. Refer to the Timing Diagrams for further detail.", 24 IOVDD (power) "Interface power. Connect to +1.8V for 1.8V logic, +3V for 3V logic, and to +5V for 5V logic.", 25 EP "The thermal pad is internally connected to the substrate. This pad can be connected to the analog ground or left floating. Keep the thermal pad separate from the digital ground, if possible."

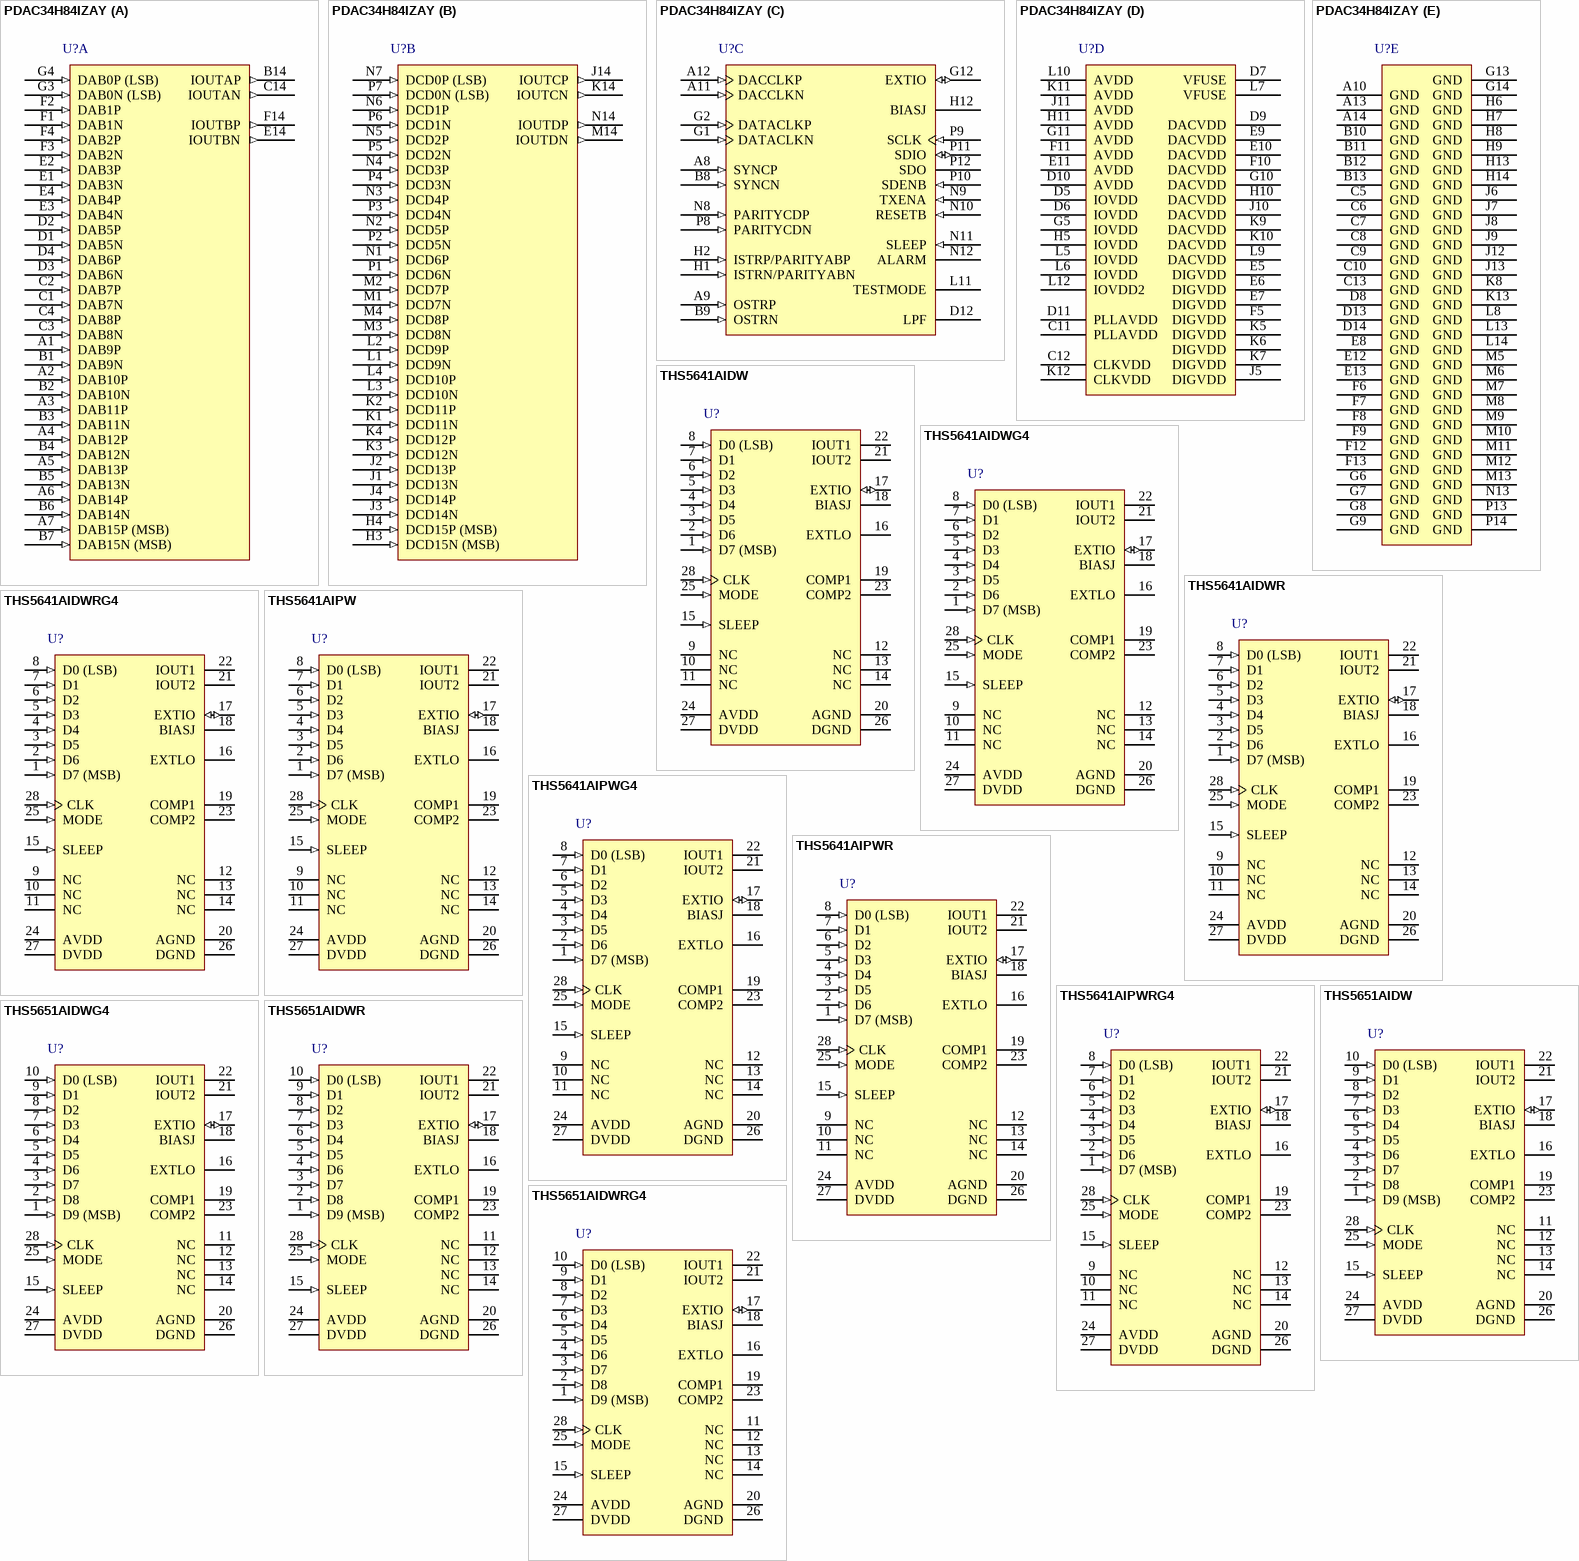
[diagram p56: symbols PDAC34H84IZAY to THS5651AIDWRG4]